# Altium footprint library 35RAPC4BH3.PcbLib: 1 footprints
Each footprint in its own frame and in the unit in brackets; x right, y up, seen from the top. Pads: shape width x height; smd on the part's side, far side on the other; paste and mask are expansions set on the pad; w line width, h text height; cw(c..) or ccw(c..) is an arc to the next point about the centre after c.
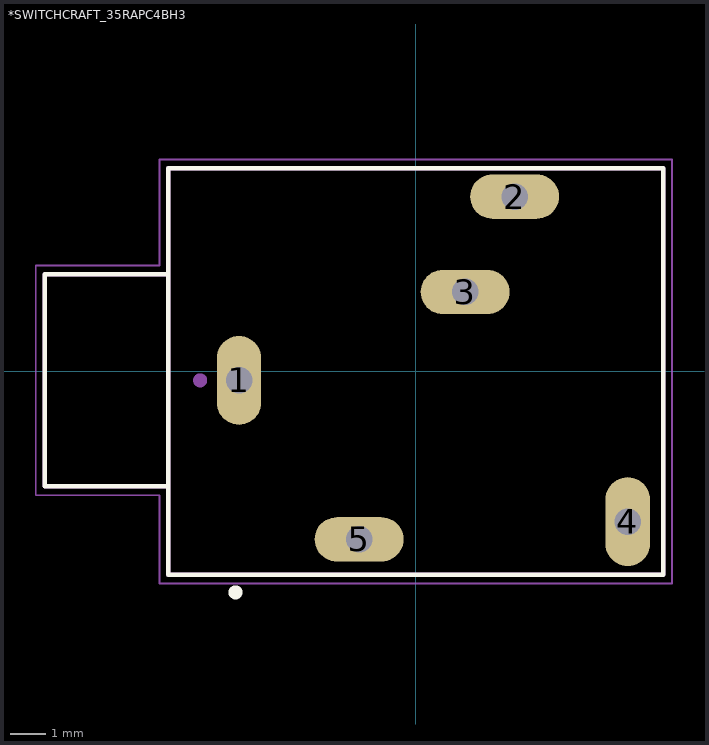
[diagram p0: the footprint, top view; thin cyan lines are the x and y axes]

## *SWITCHCRAFT_35RAPC4BH3 [mm]
pads (5):
  oval 1.258x2.516 hole 0.75: 1(-5,-0.25) 4(6,-4.25)
  oval 2.516x1.258 hole 0.75: 2(2.8,4.95) 3(1.4,2.25) 5(-1.6,-4.75)
Top Overlay:
  circle w0.2: c-5.1,-6.25 r0.1
  lines w0.127: -7,-3.25 -10.5,-3.25 -10.5,2.75 -7,2.75 ; -7,-3.25 -7,2.75 ; -7,-3.25 -7,-5.75 7,-5.75 7,5.75 -7,5.75 -7,2.75
Mechanical 1:
  lines w0: -4.98,0.13 -4.97,0.13 ; -1.98,-4.73 -1.98,-4.72 ; 1.12,2.27 1.12,2.28 ; 2.52,4.97 2.52,4.98 ; 6.02,-3.87 6.03,-3.87 ; -5.375,-1.125 -4.625,-1.125 -4.625,0.625 -5.375,0.625 -5.375,-1.125 ; -2.475,-5.125 -2.475,-4.375 -0.725,-4.375 -0.725,-5.125 -2.475,-5.125 ; 0.625,1.875 0.625,2.625 2.375,2.625 2.375,1.875 0.625,1.875 ; 2.025,4.575 2.025,5.325 3.775,5.325 3.775,4.575 2.025,4.575 ; 5.625,-5.125 6.375,-5.125 6.375,-3.375 5.625,-3.375 5.625,-5.125
Mechanical 4:
  circle w0.2: c-6.1,-0.25 r0.1
  circle w0.2: c-6.1,-0.25 r0.1
  lines w0.127: -10.5,-3.25 -7,-3.25 ; -10.5,-3.25 -10.5,2.75 ; -10.5,-3.25 -7,-3.25 ; -10.5,-3.25 -10.5,2.75 ; -10.5,2.75 -7,2.75 ; -10.5,2.75 -7,2.75 ; -7,-5.75 7,-5.75 ; -7,-5.75 -7,-3.25 ; -7,-5.75 7,-5.75 ; -7,-5.75 -7,-3.25 ; -7,-3.25 -7,2.75 ; -7,-3.25 -7,2.75 ; -7,2.75 -7,5.75 ; -7,2.75 -7,5.75 ; -7,5.75 7,5.75 ; -7,5.75 7,5.75 ; 7,-5.75 7,5.75 ; 7,-5.75 7,5.75
Mechanical 16:
  lines w0.05: -10.75,-3.5 -10.75,3 -7.25,3 -7.25,6 7.25,6 7.25,-6 -7.25,-6 -7.25,-3.5 -10.75,-3.5